# Altium schematic symbol library SDR1806-2R2ML.SchLib: 2 symbols
Pins are listed as number, name and electrical type; pins without a type are passive.

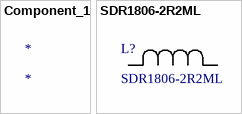
[diagram p0: symbols Component_1 to SDR1806-2R2ML]

## Component_1
designator *

## SDR1806-2R2ML
designator L?
No Description Available; Mfr_Name: Bourns Electronics; Type: DEV; Copyright: Copyright (C) 2022 Ultra Librarian. All rights reserved.; Manufacturer_Part_Number: SDR1806-2R2ML; RefDes: RefDes
footprint IND_BOURNS_SDR1806
pins: 1, 2